# EAGLE library part RHD2132 (library headstage-no-omnetics)
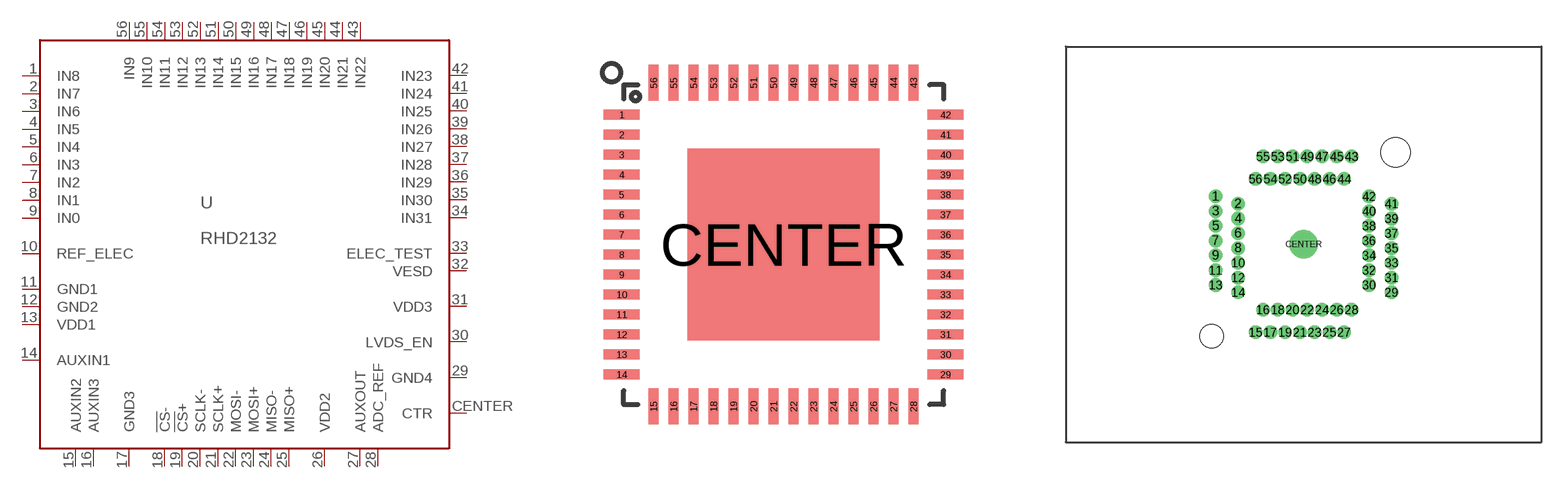
[diagram p1: symbol with the pads of QFN56_8_X_8_LARGE; footprints QFN56_8_X_8_LARGE, ZIF_QFN56_8_X_8_MLF00056A1]

Designator prefix U

## RHD2132_QFN  [QFN56_8_X_8_LARGE]
1  IN8  in
2  IN7  in
3  IN6  in
4  IN5  in
5  IN4  in
6  IN3  in
7  IN2  in
8  IN1  in
9  IN0  in
10  REF_ELEC  in
11  GND1  pwr
12  GND2  pwr
13  VDD1  pwr
14  AUXIN1  in
15  AUXIN2  in
16  AUXIN3  in
17  GND3  pwr
18  !CS!-  in
19  !CS!+  in
20  SCLK-  in
21  SCLK+  in
22  MOSI-  in
23  MOSI+  in
24  MISO-  out
25  MISO+  out
26  VDD2  pwr
27  AUXOUT  hiz
28  ADC_REF  pas
29  GND4  pwr
30  LVDS_EN  in
31  VDD3  pwr
32  VESD  pwr
33  ELEC_TEST  in
34  IN31  in
35  IN30  in
36  IN29  in
37  IN28  in
38  IN27  in
39  IN26  in
40  IN25  in
41  IN24  in
42  IN23  in
43  IN22  in
44  IN21  in
45  IN20  in
46  IN19  in
47  IN18  in
48  IN17  in
49  IN16  in
50  IN15  in
51  IN14  in
52  IN13  in
53  IN12  in
54  IN11  in
55  IN10  in
56  IN9  in
CENTER  CTR  pwr

## RHD2132_ZIF  [ZIF_QFN56_8_X_8_MLF00056A1]
Pads as for QFN56_8_X_8_LARGE

## Footprint QFN56_8_X_8_LARGE (pad centres in mm)
smd 0.9 x 0.25: 1 -4.05,3.25; 2 -4.05,2.75; 3 -4.05,2.25; 4 -4.05,1.75; 5 -4.05,1.25; 6 -4.05,0.75; 7 -4.05,0.25; 8 -4.05,-0.25; 9 -4.05,-0.75; 10 -4.05,-1.25; 11 -4.05,-1.75; 12 -4.05,-2.25; 13 -4.05,-2.75; 14 -4.05,-3.25; 29 4.05,-3.25; 30 4.05,-2.75; 31 4.05,-2.25; 32 4.05,-1.75; 33 4.05,-1.25; 34 4.05,-0.75; 35 4.05,-0.25; 36 4.05,0.25; 37 4.05,0.75; 38 4.05,1.25; 39 4.05,1.75; 40 4.05,2.25; 41 4.05,2.75; 42 4.05,3.25
smd 0.25 x 0.9: 15 -3.25,-4.05; 16 -2.75,-4.05; 17 -2.25,-4.05; 18 -1.75,-4.05; 19 -1.25,-4.05; 20 -0.75,-4.05; 21 -0.25,-4.05; 22 0.25,-4.05; 23 0.75,-4.05; 24 1.25,-4.05; 25 1.75,-4.05; 26 2.25,-4.05; 27 2.75,-4.05; 28 3.25,-4.05; 43 3.25,4.05; 44 2.75,4.05; 45 2.25,4.05; 46 1.75,4.05; 47 1.25,4.05; 48 0.75,4.05; 49 0.25,4.05; 50 -0.25,4.05; 51 -0.75,4.05; 52 -1.25,4.05; 53 -1.75,4.05; 54 -2.25,4.05; 55 -2.75,4.05; 56 -3.25,4.05
smd 4.8 x 4.8: CENTER 0,0

## Footprint ZIF_QFN56_8_X_8_MLF00056A1 (pad centres in mm)
drill 0.41 pad 0.813: 1 -5.955,3.25; 2 -4.43,2.75; 3 -5.955,2.25; 4 -4.43,1.75; 5 -5.955,1.25; 6 -4.43,0.75; 7 -5.955,0.25; 8 -4.43,-0.25; 9 -5.955,-0.75; 10 -4.43,-1.25; 11 -5.955,-1.75; 12 -4.43,-2.25; 13 -5.955,-2.75; 14 -4.43,-3.25; 15 -3.25,-5.955; 16 -2.75,-4.43; 17 -2.25,-5.955; 18 -1.75,-4.43; 19 -1.25,-5.955; 20 -0.75,-4.43; 21 -0.25,-5.955; 22 0.25,-4.43; 23 0.75,-5.955; 24 1.25,-4.43; 25 1.75,-5.955; 26 2.25,-4.43; 27 2.75,-5.955; 28 3.25,-4.43; 29 5.955,-3.25; 30 4.43,-2.75; 31 5.955,-2.25; 32 4.43,-1.75; 33 5.955,-1.25; 34 4.43,-0.75; 35 5.955,-0.25; 36 4.43,0.25; 37 5.955,0.75; 38 4.43,1.25; 39 5.955,1.75; 40 4.43,2.25; 41 5.955,2.75; 42 4.43,3.25; 43 3.25,5.955; 44 2.75,4.43; 45 2.25,5.955; 46 1.75,4.43; 47 1.25,5.955; 48 0.75,4.43; 49 0.25,5.955; 50 -0.25,4.43; 51 -0.75,5.955; 52 -1.25,4.43; 53 -1.75,5.955; 54 -2.25,4.43; 55 -2.75,5.955; 56 -3.25,4.43
drill 1.2 pad 1.93: CENTER 0,0
hole 2 at 6.225,6.225
hole 1.6 at -6.225,-6.225